# Altium footprint library Ti MSP430.PcbLib: 2 footprints
Each footprint in its own frame and in the unit in brackets; x right, y up, seen from the top. Pads: shape width x height; smd on the part's side, far side on the other; paste and mask are expansions set on the pad; w line width, h text height; cw(c..) or ccw(c..) is an arc to the next point about the centre after c.
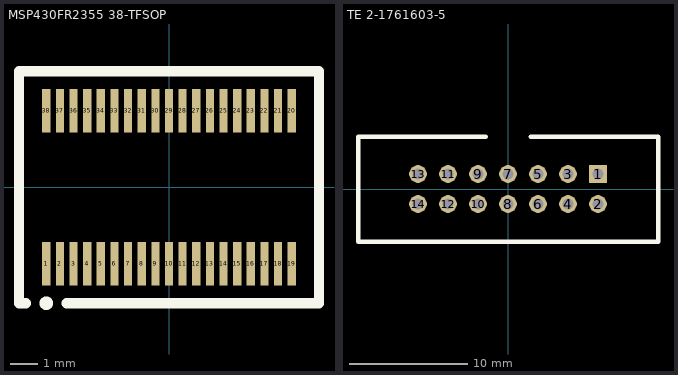
[diagram p0: the footprints below, top view; thin cyan lines are the x and y axes]

## MSP430FR2355 38-TFSOP [mm]
pads (38):
  rect 0.3x1.6 smd paste-0.025 mask+0.05: 1(-4.5,-2.8) 2(-4,-2.8) 3(-3.5,-2.8) 4(-3,-2.8) 5(-2.5,-2.8) 6(-2,-2.8) 7(-1.5,-2.8) 8(-1,-2.8) 9(-0.5,-2.8) 10(0,-2.8) 11(0.5,-2.8) 12(1,-2.8) 13(1.5,-2.8) 14(2,-2.8) 15(2.5,-2.8) 16(3,-2.8) 17(3.5,-2.8) 18(4,-2.8) 19(4.5,-2.8) 20(4.5,2.8) 21(4,2.8) 22(3.5,2.8) 23(3,2.8) 24(2.5,2.8) 25(2,2.8) 26(1.5,2.8) 27(1,2.8) 28(0.5,2.8) 29(0,2.8) 30(-0.5,2.8) 31(-1,2.8) 32(-1.5,2.8) 33(-2,2.8) 34(-2.5,2.8) 35(-3,2.8) 36(-3.5,2.8) 37(-4,2.8) 38(-4.5,2.8)
Top Overlay:
  circle w0.25: c-4.5,-4.25 r0.125
  lines w0.381: -3.75,-4.25 5.5,-4.25 5.5,4.25 -5.5,4.25 -5.5,-4.25 ; -5.5,-4.25 -5.5,-4.25 ; -5.5,-4.25 -5.25,-4.25 ; -5.25,-4.25 -5.25,-4.25
3D body: height 1.2, standoff 0.05, extent -4.9,-2.2 4.9,2.2

## TE 2-1761603-5 [mm] "14 Pin, 100mm, 2 Row"
pads (14):
  rect 1.5x1.5 hole 0.9 mask-0.1: 1(7.62,1.27)
  round 1.5 hole 0.9 mask-0.1: 2(7.62,-1.27) 3(5.08,1.27) 4(5.08,-1.27) 5(2.54,1.27) 6(2.54,-1.27) 7(0,1.27) 8(0,-1.27) 9(-2.54,1.27) 10(-2.54,-1.27) 11(-5.08,1.27) 12(-5.08,-1.27) 13(-7.62,1.27) 14(-7.62,-1.27)
Top Overlay:
  lines w0.381: -1.905,4.445 -12.7,4.445 -12.7,-4.445 12.7,-4.445 12.7,4.445 1.905,4.445
3D body "TE 2-1761603-5.stp": height 8.9, standoff -2.91, extent -12.7,-4.775 12.7,4.445